# Altium schematic symbol library camera.SchLib: 6 symbols
Pins are listed as number, name and electrical type; pins without a type are passive.

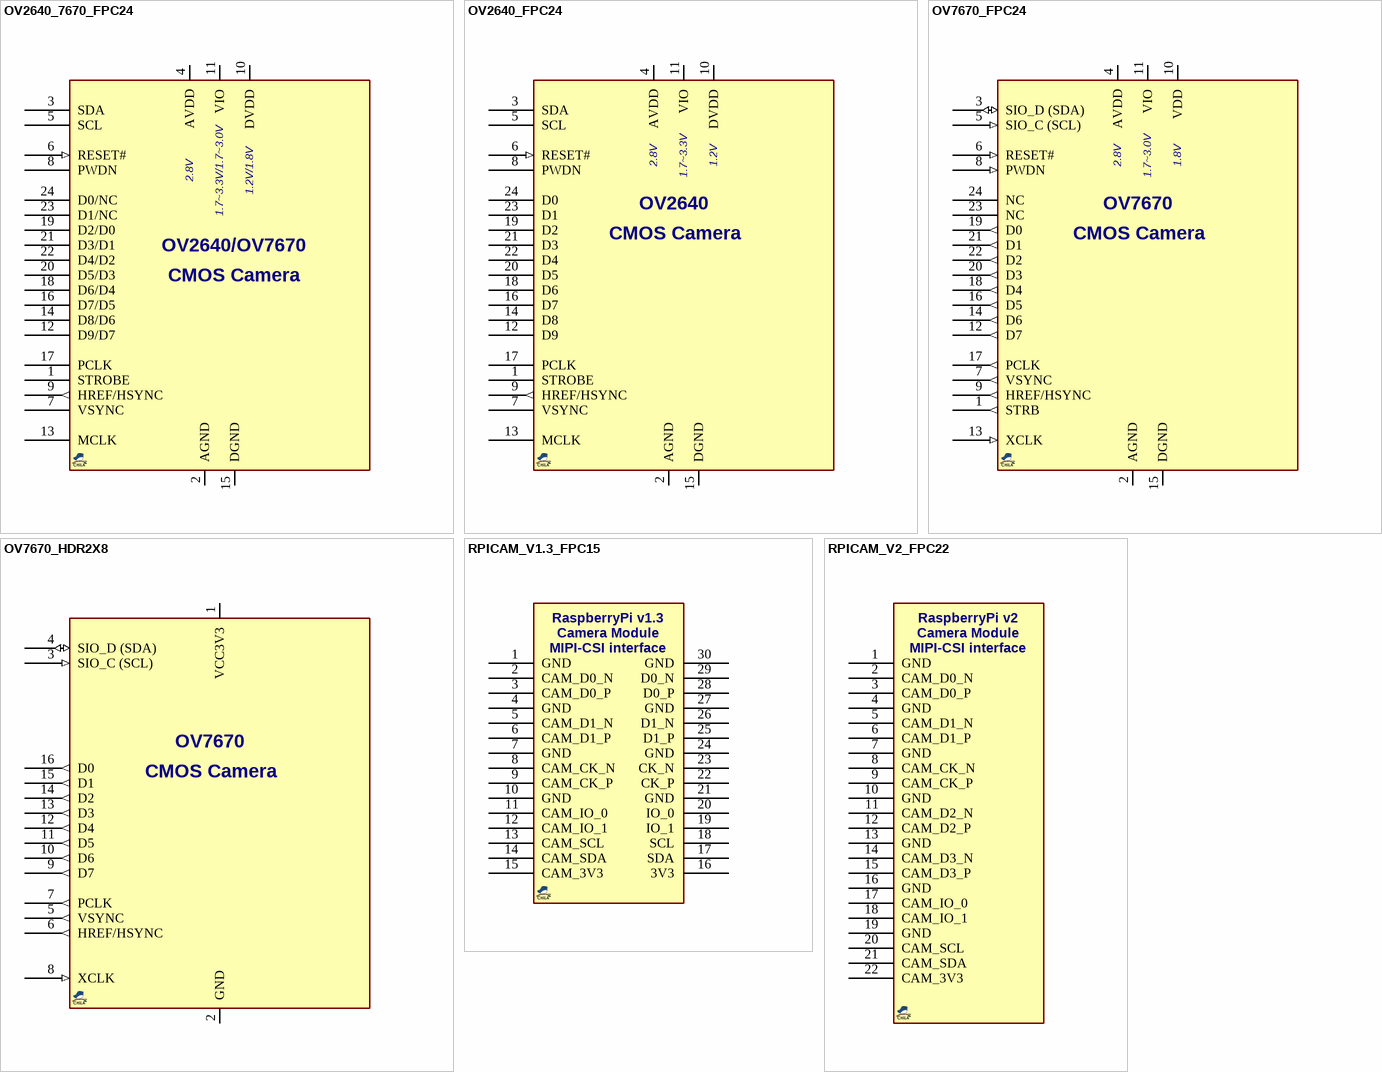
[diagram p0: symbols OV2640_7670_FPC24 to RPICAM_V2_FPC22]

## OV2640_7670_FPC24
designator J?, comment OV2640/7670  (value not drawn)
Camera Module, Color, DVP FPC24; VALUE: OV2640/7670; MANF_P#: OV2640/7670; PARAM2: -; PARAM: -
footprint FPC50_24 (FPC, FH12 Series; 24 Position; 0.5mm, Bottom Contact, FH12F-24S-0.5SH)
pins: 1 STROBE, 2 AGND (power), 3 SDA, 4 AVDD (power), 5 SCL, 6 RESET# (in), 7 VSYNC, 8 PWDN, 9 HREF/HSYNC (out), 10 DVDD (power), 11 VIO (power), 12 D9/D7, 13 MCLK, 14 D8/D6, 15 DGND (power), 16 D7/D5, 17 PCLK, 18 D6/D4, 19 D2/D0, 20 D5/D3, 21 D3/D1, 22 D4/D2, 23 D1/NC, 24 D0/NC
1 alternate drawing of the same symbol
text: 2.8V; 1.7~3.3V/1.7~3.0V; 1.2V/1.8V; OV2640/OV7670; CMOS Camera

## OV2640_FPC24
designator J?, comment OV2640  (value not drawn)
Camera Module, Color CMOS 2MP, DVP FPC24; PARAM2: 2.8v, 1.2Vcore; VALUE: OV2640; MANF_P#: OV2640; PARAM: 2MP
footprint FPC50_24 (FPC, FH12 Series; 24 Position; 0.5mm, Bottom Contact, FH12F-24S-0.5SH)
pins: 1 STROBE, 2 AGND (power), 3 SDA, 4 AVDD (power), 5 SCL, 6 RESET# (in), 7 VSYNC, 8 PWDN, 9 HREF/HSYNC (out), 10 DVDD (power), 11 VIO (power), 12 D9, 13 MCLK, 14 D8, 15 DGND (power), 16 D7, 17 PCLK, 18 D6, 19 D2, 20 D5, 21 D3, 22 D4, 23 D1, 24 D0
1 alternate drawing of the same symbol
text: 2.8V; 1.7~3.3V; 1.2V; CMOS Camera

## OV7670_FPC24
designator J?, comment OV7670  (value not drawn)
Camera Module, Color CMOS VGA (640 x 480)  DVP FPC24; PARAM2: 2.8v; Value: OV7670; MANF_P#: OV7670; PARAM: VGA (640 x 480)
footprint FPC50_24 (FPC, FH12 Series; 24 Position; 0.5mm, Bottom Contact, FH12F-24S-0.5SH)
pins: 1 STRB (out), 2 AGND (power), 3 SIO_D (SDA) (io), 4 AVDD (power), 5 SIO_C (SCL) (in), 6 RESET# (in), 7 VSYNC (out), 8 PWDN (in), 9 HREF/HSYNC (out), 10 VDD (power), 11 VIO (power), 12 D7 (out), 13 XCLK (in), 14 D6 (out), 15 DGND (power), 16 D5 (out), 17 PCLK (out), 18 D4 (out), 19 D0 (out), 20 D3 (out), 21 D1 (out), 22 D2 (out), 23 NC, 24 NC
1 alternate drawing of the same symbol
text: 2.8V; 1.7~3.0V; 1.8V; CMOS Camera

## OV7670_HDR2X8
designator J?  (value not drawn)
Camera Module, Color CMOS VGA (640 x 480)  DVP HDR2X8; PARAM2: 2.8V; MANF_P#: OV7670_HDR2X8; PARAM: VGA (640 x 480); Value: OV7670_HDR2X8
footprint HDR_F_2X8 (Connector; Header; 8x2 Position)
pins: 1 VCC3V3 (power), 2 GND (power), 3 SIO_C (SCL) (in), 4 SIO_D (SDA) (io), 5 VSYNC (out), 6 HREF/HSYNC (out), 7 PCLK (out), 8 XCLK (in), 9 D7 (out), 10 D6 (out), 11 D5 (out), 12 D4 (out), 13 D3 (out), 14 D2 (out), 15 D1 (out), 16 D0 (out)
1 alternate drawing of the same symbol
text: OV7670; CMOS Camera

## RPICAM_V1.3_FPC15
designator J?, comment RPICAM_V1.3  (value not drawn)
Camera Module, Color CMOS 5MP, MIPI-CSI FPC15; PARAM2: 3.3v; PARAM: RaspberryPi v1.3 camera module 5MP; VALUE: RPICAM_V1.3; MANF_P#: RPICAM_V1.3
footprint FPC100_15V (TE 1-1734248-5)
pins: 1 GND, 2 CAM_D0_N, 3 CAM_D0_P, 4 GND, 5 CAM_D1_N, 6 CAM_D1_P, 7 GND, 8 CAM_CK_N, 9 CAM_CK_P, 10 GND, 11 CAM_IO_0, 12 CAM_IO_1, 13 CAM_SCL, 14 CAM_SDA, 15 CAM_3V3, 16 3V3, 17 SDA, 18 SCL, 19 IO_1, 20 IO_0, 21 GND, 22 CK_P, 23 CK_N, 24 GND, 25 D1_P, 26 D1_N, 27 GND, 28 D0_P, 29 D0_N, 30 GND
1 alternate drawing of the same symbol
text: RaspberryPi v1.3; Camera Module; MIPI-CSI interface

## RPICAM_V2_FPC22
designator J?, comment RPICAM_V2  (value not drawn)
Camera Module, Color, MIPI-CSI FPC22; PARAM2: 3.3v; PARAM: RaspberryPi v2 camera module; VALUE: RPICAM_V2; MANF_P#: RPICAM_V2
footprint FPC50_22B (Connector; FH12 Series; 24 Position; 0.5mm, Top Contact, FH12A-24S-0.5SH(55))
pins: 1 GND, 2 CAM_D0_N, 3 CAM_D0_P, 4 GND, 5 CAM_D1_N, 6 CAM_D1_P, 7 GND, 8 CAM_CK_N, 9 CAM_CK_P, 10 GND, 11 CAM_D2_N, 12 CAM_D2_P, 13 GND, 14 CAM_D3_N, 15 CAM_D3_P, 16 GND, 17 CAM_IO_0, 18 CAM_IO_1, 19 GND, 20 CAM_SCL, 21 CAM_SDA, 22 CAM_3V3
1 alternate drawing of the same symbol
text: RaspberryPi v2; Camera Module; MIPI-CSI interface